# Altium footprint library DIODES PTH.PcbLib: 146 footprints (part 5 of 10)
Each footprint in its own frame and in the unit in brackets; x right, y up, seen from the top. Pads: shape width x height; smd on the part's side, far side on the other; paste and mask are expansions set on the pad; w line width, h text height; cw(c..) or ccw(c..) is an arc to the next point about the centre after c.
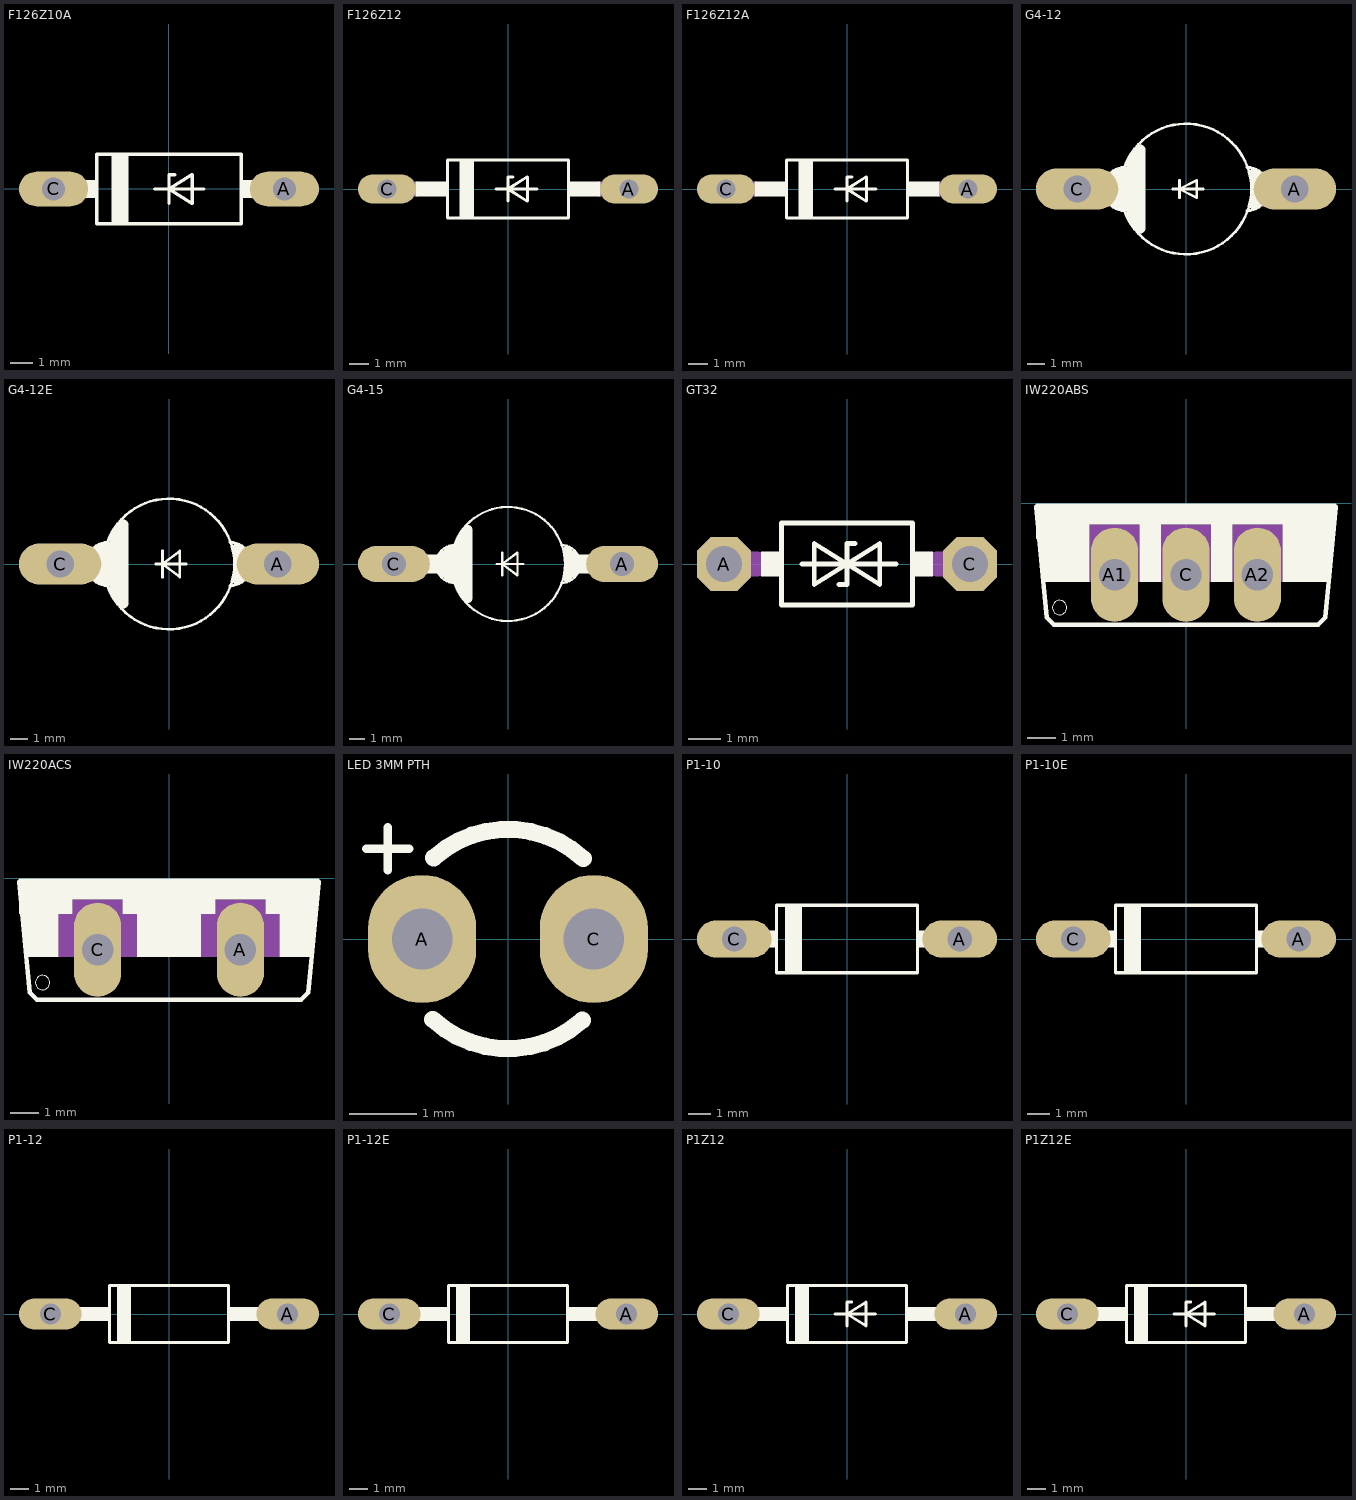
[diagram p4: the footprints below, top view; thin cyan lines are the x and y axes]

## F126Z10A [mil]
pads (2):
  oval 120x60 hole 40: A(200,0) C(-200,0)
Top Overlay:
  rectangle: -147,-16 -125,16
  rectangle: 125,-16 147,16
  rectangle: -100,-60 -70,60
  lines w6: -25,0 0,0 ; 0,-25 0,0 ; 10,25 0,25 0,0 ; 60,0 0,0 ; 0,0 40,25 40,-25 0,0 ; -125,-60 -125,60 125,60 125,-60 -125,-60
Mechanical 16:
  lines w32: -200,0 -150,0 ; 150,0 200,0

## F126Z12 [mil]
pads (2):
  oval 120x60 hole 40: A(250,0) C(-250,0)
Top Overlay:
  rectangle: 125,-16 191,16
  rectangle: -191,-16 -125,16
  rectangle: -100,-60 -70,60
  lines w6: -25,0 0,0 ; 0,-25 0,0 ; 10,25 0,25 0,0 ; 60,0 0,0 ; 0,0 40,25 40,-25 0,0 ; -125,-60 -125,60 125,60 125,-60 -125,-60
Mechanical 16:
  lines w32: -250,0 -190,0 ; 190,0 250,0

## F126Z12A [mil]
pads (2):
  oval 120x60 hole 40: A(250,0) C(-250,0)
Top Overlay:
  rectangle: 125,-16 191,16
  rectangle: -191,-16 -125,16
  rectangle: -100,-60 -70,60
  lines w6: -25,0 0,0 ; 0,-25 0,0 ; 10,25 0,25 0,0 ; 60,0 0,0 ; 0,0 40,25 40,-25 0,0 ; -125,-60 -125,60 125,60 125,-60 -125,-60
Mechanical 16:
  lines w32: -250,0 -190,0 ; 190,0 250,0

## G4-12 [mil]
pads (2):
  oval 189x94.5 hole 63: A(250,0) C(-250,0)
Top Overlay:
  circle w6: c0,0 r150
  rectangle: -195,-25 -150,25
  rectangle: 150,-25 195,25
  lines w6: -140,-50 cw(c-140,0) -140,50 ; -30,0 -15,0 ; -15,-20 -15,0 ; -15,20 -15,0 ; 40,0 -15,0 ; 140,-50 ccw(c140,0) 140,50 ; -15,0 25,20 25,-20 -15,0
  lines w24: -170,-20 -155,-35 ; -170,20 -155,35 ; -140,-40 -140,40 ; -115,-80 -125,-60 -125,60 -115,80 ; -105,-90 -105,90 ; 155,-35 170,-20 ; 155,35 170,20
Mechanical 16:
  lines w50: -250,0 -200,0 ; 200,0 250,0

## G4-12E [mil]
pads (2):
  oval 189x94.5 hole 63: A(250,0) C(-250,0)
Top Overlay:
  circle w6: c0,0 r150
  rectangle: -195,-25 -150,25
  rectangle: 150,-25 195,25
  lines w6: -140,-50 cw(c-140,0) -140,50 ; -30,0 -15,0 ; -15,-30 -15,0 ; -15,30 -15,0 ; 40,0 -15,0 ; 140,-50 ccw(c140,0) 140,50 ; -15,0 25,30 25,-30 -15,0
  lines w24: -170,-20 -155,-35 ; -170,20 -155,35 ; -140,-40 -140,40 ; -115,-80 -125,-60 -125,60 -115,80 ; -105,-90 -105,90 ; 155,-35 170,-20 ; 155,35 170,20
Mechanical 16:
  lines w50: -250,0 -200,0 ; 200,0 250,0

## G4-15 [mil]
pads (2):
  oval 189x94.5 hole 63: A(300,0) C(-300,0)
Top Overlay:
  circle w6: c0,0 r150
  rectangle: 150,-25 230,25
  rectangle: -230,-25 -150,25
  lines w6: -140,-50 cw(c-140,0) -140,50 ; -30,0 -15,0 ; -15,-30 -15,0 ; -15,30 -15,0 ; 40,0 -15,0 ; 140,-50 ccw(c140,0) 140,50 ; -15,0 25,-30 25,30 -15,0
  lines w24: -170,-20 -155,-35 ; -170,20 -155,35 ; -140,-40 -140,40 ; -115,-80 -125,-60 -125,60 -115,80 ; -105,-90 -105,90 ; 155,-35 170,-20 ; 155,35 170,20
Mechanical 16:
  lines w50: -300,0 -225,0 ; 225,0 300,0

## GT32 [mil]
pads (2):
  oct 66x66 hole 44: A(-150,0) C(150,0)
Top Overlay:
  rectangle: 80,-15 105,15
  rectangle: -105,-15 -80,15
  lines w6: -55,0 0,0 ; -10,-25 0,-25 0,0 ; 10,25 0,25 0,0 ; 60,0 0,0 ; 0,0 40,-25 40,25 0,0 ; 0,0 -40,25 -40,-25 0,0 ; -80,-50 80,-50 80,50 -80,50 -80,-50
Mechanical 16:
  lines w30: -150,0 -110,0 ; 110,0 150,0

## IW220ABS [mil]
pads (3):
  oval 66x132 hole 44: A1(-100,-100) A2(100,-100) C(0,-100)
Top Overlay:
  circle w0: c-177,-146 r10
  rectangle: -200,-110 -135,-50
  rectangle: -65,-110 -35,-30
  rectangle: 35,-110 65,-30
  rectangle: 135,-110 200,-50
  rectangle: -205,-75 -200,-50
  rectangle: 200,-75 205,-50
  rectangle: 135,-50 205,-30
  rectangle: -210,-50 -135,-30
  rectangle: -210,-30 210,0
  lines w6: -210,-5 -195,-160 -185,-170 185,-170 195,-160 210,-5
Mechanical 16:
  rectangle: -135,-110 -65,-30
  rectangle: -35,-110 35,-30
  rectangle: 65,-110 135,-30

## IW220ACS [mil]
pads (2):
  oval 66x132 hole 44: A(100,-100) C(-100,-100)
Top Overlay:
  circle w0: c-177,-146 r10
  rectangle: -205,-75 -200,-50
  rectangle: -200,-110 -155,-50
  rectangle: -45,-110 45,-50
  rectangle: 200,-75 205,-50
  rectangle: 135,-50 205,-30
  rectangle: 155,-110 200,-50
  rectangle: -65,-50 65,-30
  rectangle: -210,-50 -135,-30
  rectangle: -210,-30 210,0
  lines w6: -210,-5 -195,-160 -185,-170 185,-170 195,-160 210,-5
Mechanical 16:
  rectangle: -155,-110 -45,-50
  rectangle: 45,-110 155,-50
  rectangle: 65,-50 135,-30
  rectangle: -135,-50 -65,-30

## LED 3MM PTH [mm]
pads (2):
  oval 1.6x1.9 hole 0.9 mask+0.14: A(-1.27,0) C(1.27,0)
Top Overlay:
  lines w0.127: -2.095,1.333 -1.46,1.333 ; -1.778,1.016 -1.778,1.651
  lines w0.254: -1.114,-1.19 ccw(c0,0.025) 1.1,-1.203 ; -1.1,1.203 cw(c0,-0.025) 1.114,1.19
3D body "led3mm.STEP": height 5.49, standoff -26.11, extent -1.727,-1.6 1.473,1.6

## P1-10 [mil]
pads (2):
  oval 132x66 hole 44: A(200,0) C(-200,0)
Top Overlay:
  rectangle: 125,-15 155,15
  rectangle: -155,-15 -125,15
  rectangle: -110,-60 -80,60
  lines w6: -125,-60 -125,60 125,60 125,-60 -125,-60
Mechanical 16:
  lines w30: -200,0 -160,0 ; 160,0 200,0

## P1-10E [mil]
pads (2):
  oval 132x66 hole 44: A(200,0) C(-200,0)
Top Overlay:
  rectangle: -110,-60 -80,60
  rectangle: 125,-15 145,15
  rectangle: -145,-15 -125,15
  lines w6: -125,-60 125,-60 125,60 -125,60 -125,-60
Mechanical 16:
  lines w30: -200,0 -150,0 ; 150,0 200,0

## P1-12 [mil]
pads (2):
  oval 132x66 hole 44: A(250,0) C(-250,0)
Top Overlay:
  rectangle: -110,-60 -80,60
  rectangle: 125,-15 205,15
  rectangle: -205,-15 -125,15
  lines w6: -125,-60 125,-60 125,60 -125,60 -125,-60
Mechanical 16:
  lines w30: -250,0 -210,0 ; 210,0 250,0

## P1-12E [mil]
pads (2):
  oval 132x66 hole 44: A(250,0) C(-250,0)
Top Overlay:
  rectangle: -195,-15 -125,15
  rectangle: 125,-15 195,15
  rectangle: -110,-60 -80,60
  lines w6: -125,-60 -125,60 125,60 125,-60 -125,-60
Mechanical 16:
  lines w30: -250,0 -200,0 ; 200,0 250,0

## P1Z12 [mil]
pads (2):
  oval 132x66 hole 44: A(250,0) C(-250,0)
Top Overlay:
  rectangle: -110,-60 -80,60
  rectangle: 125,-15 205,15
  rectangle: -205,-15 -125,15
  lines w6: -25,0 0,0 ; 0,-25 0,0 ; 10,25 0,25 0,0 ; 60,0 0,0 ; 0,0 40,-25 40,25 0,0 ; -125,-60 125,-60 125,60 -125,60 -125,-60
Mechanical 16:
  lines w30: -250,0 -210,0 ; 210,0 250,0

## P1Z12E [mil]
pads (2):
  oval 132x66 hole 44: A(250,0) C(-250,0)
Top Overlay:
  rectangle: -195,-15 -125,15
  rectangle: 125,-15 195,15
  rectangle: -110,-60 -80,60
  lines w6: -25,0 0,0 ; 0,-25 0,0 ; 10,25 0,25 0,0 ; 60,0 0,0 ; 0,0 40,25 40,-25 0,0 ; -125,-60 -125,60 125,60 125,-60 -125,-60
Mechanical 16:
  lines w30: -250,0 -200,0 ; 200,0 250,0